# Altium footprint library Resistor.PcbLib: 5 footprints
Each footprint in its own frame and in the unit in brackets; x right, y up, seen from the top. Pads: shape width x height; smd on the part's side, far side on the other; paste and mask are expansions set on the pad; w line width, h text height; cw(c..) or ccw(c..) is an arc to the next point about the centre after c.
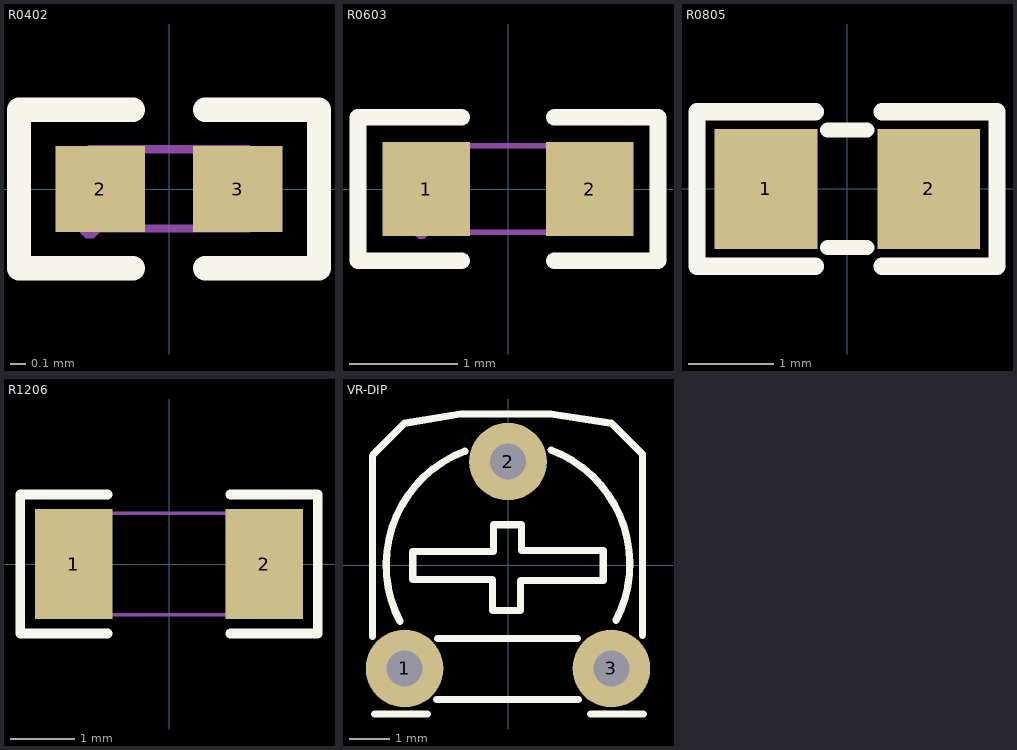
[diagram p0: the footprints below, top view; thin cyan lines are the x and y axes]

## R0402 [mm]
pads (2):
  rect 0.566x0.54 smd paste-100 mask+0.051: 2(-0.433,0) 3(0.433,0)
Top Overlay:
  lines w0.152: -0.226,-0.499 -0.944,-0.499 -0.944,0.499 -0.226,0.499 ; 0.226,-0.499 0.944,-0.499 0.944,0.499 0.226,0.499
Top Paste:
  region: -0.135,-0.23 -0.135,0.23 -0.175,0.27 -0.676,0.27 -0.716,0.23 -0.716,-0.23 -0.676,-0.27 -0.175,-0.27
  region: 0.135,-0.23 0.135,0.23 0.175,0.27 0.676,0.27 0.716,0.23 0.716,-0.23 0.676,-0.27 0.175,-0.27
Mechanical 15:
  region: -0.44,-0.25 -0.44,-0.275 -0.475,-0.31 -0.525,-0.31 -0.56,-0.275 -0.56,-0.25 -0.56,-0.225 -0.525,-0.19 -0.475,-0.19 -0.44,-0.225
  region: -0.249,0.25 -0.249,-0.25 -0.499,-0.25 -0.499,0.25
  region: 0.251,-0.25 0.251,0.25 0.501,0.25 0.501,-0.25
  lines w0.051: -0.5,-0.25 0.5,-0.25 0.5,0.25 -0.5,0.25 -0.5,-0.25
3D body "R0402.step": height 0.35, standoff 0, extent -0.5,-0.25 0.5,0.25

## R0603 [mil]
pads (2):
  rect 31.75x34.02 smd paste-3937.01 mask+2: 1(-29.66,0) 2(29.66,0)
Top Overlay:
  lines w6: -16.78,-26.01 -54.53,-26.01 -54.53,26.01 -16.78,26.01 ; 16.78,-26.01 54.53,-26.01 54.53,26.01 16.78,26.01
Top Paste:
  region: 47.05,17.72 15.55,17.72 13.58,15.75 13.58,6.77 28.15,6.77 28.15,-6.22 13.58,-6.22 13.58,-15.75 15.55,-17.72 47.05,-17.72 49.02,-15.75 49.02,15.75
  region: -47.05,-17.72 -15.55,-17.72 -13.58,-15.75 -13.58,-6.77 -28.15,-6.77 -28.15,6.22 -13.58,6.22 -13.58,15.75 -15.55,17.72 -47.05,17.72 -49.02,15.75 -49.02,-15.75
Mechanical 15:
  region: -29.14,-15.75 -29.14,-16.73 -30.52,-18.11 -32.48,-18.11 -33.86,-16.73 -33.86,-15.75 -33.86,-14.77 -32.48,-13.39 -30.52,-13.39 -29.14,-14.77
  region: -31.5,-15.75 -31.5,15.75 -19.68,15.75 -19.68,-15.75
  region: 31.5,-15.75 31.5,15.75 19.68,15.75 19.68,-15.75
  lines w2: -31.5,-15.75 -31.5,15.75 31.5,15.75 31.5,-15.75 -31.5,-15.75
3D body "R0603.step": height 17.72, standoff 0, extent -31.5,-15.75 31.5,15.75

## R0805 [mm]
pads (2):
  rect 1.2x1.4 smd: 1(-0.95,0) 2(0.95,0)
Top Overlay:
  lines w0.178: -0.229,-0.686 0.228,-0.686 ; -0.229,0.686 0.228,0.686
  lines w0.2: -0.371,-0.904 -1.754,-0.904 -1.754,0.899 -0.371,0.899 ; 0.404,-0.904 1.746,-0.904 1.746,0.899 0.404,0.899
3D body "R0805.step": height 0.4, standoff 0, extent -1,-0.6 1,0.6

## R1206 [mil]
pads (2):
  rect 47.54x66.97 smd paste-3937.01 mask+2: 1(-58.22,0) 2(58.22,0)
Top Overlay:
  lines w6: -37.45,-42.48 -90.99,-42.48 -90.99,42.48 -37.45,42.48 ; 37.45,-42.48 90.99,-42.48 90.99,42.48 37.45,42.48
Top Paste:
  region: 34.45,-29.55 34.45,-15.32 38.39,-11.38 46.68,-11.38 50.61,-7.45 50.61,7.45 46.68,11.38 38.39,11.38 34.45,15.32 34.45,29.55 38.39,33.48 78.05,33.48 81.99,29.55 81.99,-29.55 78.05,-33.48 38.39,-33.48
  region: -34.45,-29.55 -34.45,-15.32 -38.39,-11.38 -46.68,-11.38 -50.61,-7.45 -50.61,7.45 -46.68,11.38 -38.39,11.38 -34.45,15.32 -34.45,29.55 -38.39,33.48 -78.05,33.48 -81.99,29.55 -81.99,-29.55 -78.05,-33.48 -38.39,-33.48
Mechanical 15:
  region: -58.66,-31 -58.66,-31.98 -60.04,-33.36 -62,-33.36 -63.38,-31.98 -63.38,-31 -63.38,-30.02 -62,-28.64 -60.04,-28.64 -58.66,-30.02
  region: -61.02,-31 -61.02,31 -43.31,31 -43.31,-31
  region: 61.02,-31 61.02,31 43.31,31 43.31,-31
  lines w2: -61.02,-31 -61.02,31 61.02,31 61.02,-31 -61.02,-31
3D body "R1206.step": height 19.69, standoff 0, extent -62.99,-31.5 62.99,31.5

## VR-DIP [mil]
pads (3):
  round 75 hole 35: 1(-100,-100) 2(0,100) 3(100,-100)
Top Overlay:
  lines w7: -131,-69 -131,106 -100,137 -46,146 41.5,146 100,137 130,107 130,-68 ; -129,-144 -78,-144 ; -104.35,-54.66 cw(c0,0) -41.9,110.1 ; -92,13 -92,-14 -15,-14 -15,-44 12,-44 12,-15 92,-15 92,14 13,14 13,39 -14,39 -14,13 -91,13 ; -69,-130 68,-130 ; -68,-71 67,-71 ; 41.9,111.1 cw(c0,1) 104.35,-53.66 ; 80,-144 131,-144
3D body "Bien TroTam Giac.step": height 278.74, standoff -150.39, extent -127.95,-149.68 127.95,127.88